# EAGLE library part SL-SI1132 (library FaBo-Environment)
SiliconLabs SI1131(UV Index sensor)
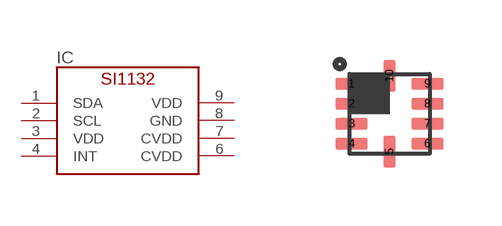
[diagram p3: symbol with the pads of SILICONLABS-SI1132; footprint SILICONLABS-SI1132]

Designator prefix IC

## SL-SI1132  [SILICONLABS-SI1132]
1  SDA
2  SCL
3  VDD
4  INT
6  CVDD
7  CVDD
8  GND
9  VDD

## Footprint SILICONLABS-SI1132 (pad centres in mm)
smd 0.8 x 0.3: 1 -0.95,0.752; 2 -0.95,0.252; 3 -0.95,-0.248; 4 -0.95,-0.748; 6 0.95,-0.748; 7 0.95,-0.248; 8 0.95,0.252; 9 0.95,0.752
smd 0.3 x 0.8: 5 0,-0.95; 10 0,0.95